# EAGLE library part ST1S10 (library machine_science2)
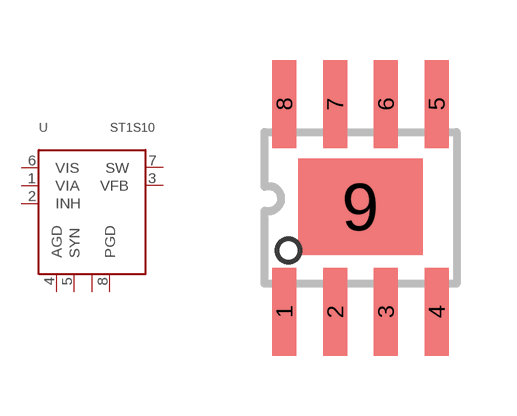
[diagram p3: symbol with the pads of S08; footprint S08]

Designator prefix -

## ST1S10S08  [S08]
1  VIA
2  INH
3  VFB
4  AGD
5  SYN
6  VIS
7  SW
8  PGD
9  PPD

## Footprint S08 (pad centres in mm)
smd 0.6 x 2.2: 1 -1.905,-2.13; 2 -0.635,-2.13; 3 0.635,-2.13; 4 1.905,-2.13; 5 1.905,3.07; 6 0.635,3.07; 7 -0.635,3.07; 8 -1.905,3.07
smd 3.1 x 2.41: 9 0,0.5